# Altium schematic symbol library ATK-SIM800C.SCHLIB: 29 symbols
Pins are listed as number, name and electrical type; pins without a type are passive.

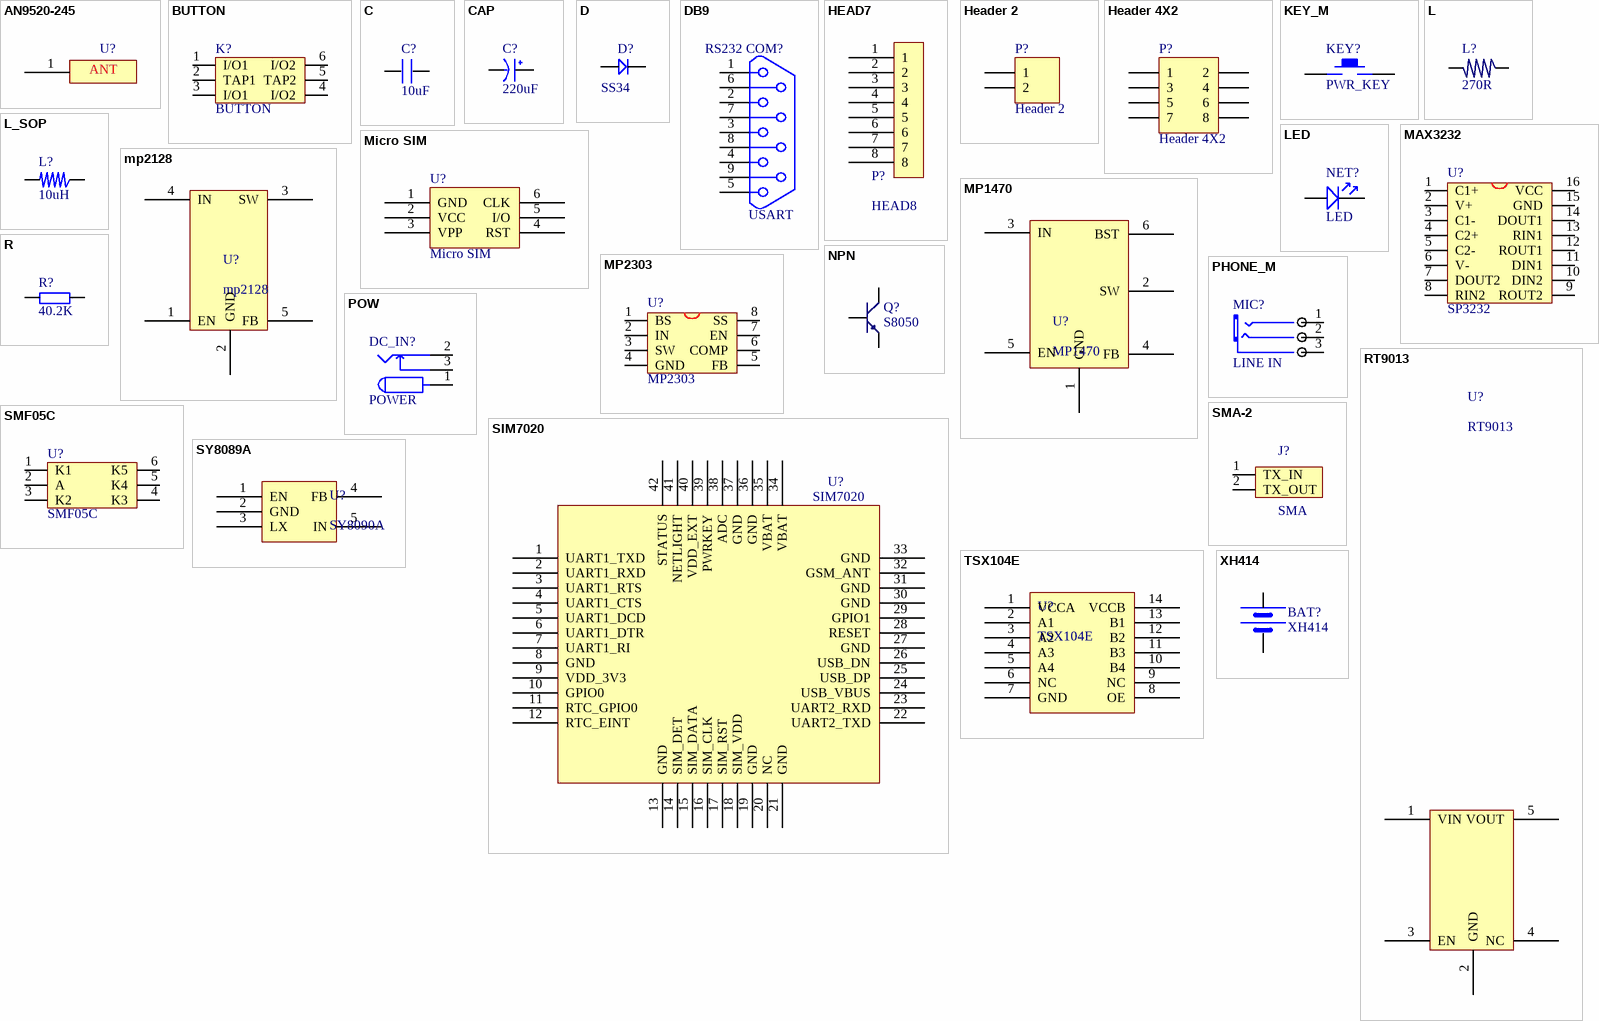
[diagram p0: symbols AN9520-245 to XH414]

## AN9520-245
designator U?, comment ANT  (value not drawn)
陶瓷天线
footprint JOHANSON (陶瓷天线 3.2mm *1.6m)
pins: 1 ANT

## BUTTON
designator K?
footprint BTN8.5*8.5 (8.5MM*8.5MM)
footprint BTN7*7 (7mm*7mm)
pins: 1 I/O1, 2 TAP1, 3 I/O1, 4 I/O2, 5 TAP2, 6 I/O2

## C
designator C?, comment 10uF
footprint 0603P
footprint 0805
footprint CC5.08 (CAP0.1)
footprint CC4.572 (222/332)
footprint 1206
footprint 1210
footprint CC6.096
footprint CC7.62
footprint CVAR (4MM*6.6MM)
footprint C 5.08    7.5mm x4.5mm
pins: 1, 2

## CAP
designator C?, comment 220uF
footprint C1206
footprint CAP2.54 (RB.1/.2)
footprint CAP5.08 (RB.2/.4)
footprint CAP7.62 (25V 2200uF)
footprint CAP10.16 (50V10000uF)
footprint CAP10.9 (50V 2200uF)
footprint CAP3.0 (100V 10uF)
footprint CAP8.0 (25V/4700uF)
footprint CAP8.0_2 (50V/4700uF)
footprint C7040 (7MM*4MM)
footprint CC1010 (SMD;W:10mm;L:10mm;)
footprint CC6.56.5 (SMD;W:6.5mm;L:6.5mm;)
footprint CC88 (SMD;W:8mm;L:8mm;)
footprint CAP2.54M (6mm*8mm)
footprint CAP12.5 (12.5mm*20mm,pin:5.08mm)
footprint CAP5.08_2 (RB 5.08/13)
footprint CC5.35.3
footprint C3528 (1210 3.5MM*2.8MM)
footprint Model Name (Footprint not found)
footprint CAP3528 (1210 3.5MM*2.8MM)
pins: 1 VCC, 2 GND

## D
designator D?, comment SS34
1N4148
footprint SOD-123
footprint DIODE_SOP (4148)
footprint DIODE-L (6A10)
footprint DIODE-M (1N5822)
footprint DIODE_S (1N4007)
footprint DIODE_3*5.3 (ME:SS14/SS24;L:5.3mm;W:3mm;)
footprint DIODE_4*5.6 (ME:RS2J.L:5.6mm;W:4mm)
footprint DIODE_6.2*8.13 (ME:RS2J.L:8.13mm;W:6.2mm)
pins: 1, 2

## DB9
designator RS232 COM?, comment USART
footprint DB9
pins: 1, 2, 3, 4, 5, 6, 7, 8, 9
2 alternate drawings of the same symbol

## HEAD7
designator P?, comment HEAD8
pins: 1, 2, 3, 4, 5, 6, 7, 8

## Header 2
designator P?
Header, 2-Pin; LatestRevisionDate: 17-Jul-2002; LatestRevisionNote: Re-released for DXP Platform.; Publisher: Altium Limited
footprint HDR1X2 (Connector; Header; 2 Position)
signal-integrity model Connector
pins: 1, 2

## Header 4X2
designator P?
Header, 4-Pin, Dual row; LatestRevisionDate: 17-Jul-2002; LatestRevisionNote: Re-released for DXP Platform.; Publisher: Altium Limited
footprint HDR2X4 (Connector; Header; 4x2 Position)
signal-integrity model Connector
pins: 1, 2, 3, 4, 5, 6, 7, 8

## KEY_M
designator KEY?, comment PWR_KEY
footprint KEY_M (KEY_MID)
footprint KEY_2 (KEY?)
footprint KEY_SOP_BG (KEY?)
pins: 1, 2

## L
designator L?, comment 270R
footprint L3A (L)
footprint L4.7
footprint L_USER (SELF_DEF)
footprint L10 (10mH)
footprint SMD7850
footprint 0805
footprint 1206
footprint L_SOPL (L_LARGE)
footprint 0603P
footprint L_CD43 (4mm*4mm)
pins: 1, 2

## L_SOP
designator L?, comment 10uH
footprint L_SOPL (L_LARGE)
footprint L_SOPS (L_4*4)
footprint L10 (10mH)
footprint L_SOP74 (7.4*7.4)
footprint L_4.7 (4mm*4mm)
pins: 1, 2

## LED
designator NET?
footprint SMDLED
footprint LED-DIP (PIN:2.54MM;H:5MM;)
footprint LED-DIP_S
pins: 1, 2

## MAX3232
designator U?, comment SP3232
footprint SOP16M (Small Outline; 16 Leads; Body Width 3.9 mm; Pitch 1.27 mm)
pins: 1 C1+, 2 V+, 3 C1-, 4 C2+, 5 C2-, 6 V-, 7 DOUT2, 8 RIN2, 9 ROUT2, 10 DIN2, 11 DIN1, 12 ROUT1, 13 RIN1, 14 DOUT1, 15 GND, 16 VCC

## Micro SIM
designator U?
footprint Micro SIM (6P 自弹式)
pins: 1 GND, 2 VCC, 3 VPP, 4 RST, 5 I/O, 6 CLK

## MP1470
designator U?
footprint SOP23-6 - duplicate1
footprint SOT-23-6
pins: 1 GND, 2 SW, 3 IN, 4 FB, 5 EN, 6 BST

## mp2128
designator U?
footprint SOT-23-5
pins: 1 EN, 2 GND, 3 SW, 4 IN, 5 FB

## MP2303
designator U?
DC DC Step Down IC
footprint MP2303
pins: 1 BS, 2 IN, 3 SW, 4 GND, 5 FB, 6 COMP, 7 EN, 8 SS

## NPN
designator Q?, comment S8050
8050/BCW846/BCW847
footprint SOT-23R (SOT-23; 3 Leads; Body 3.0 x 2.5 mm, inc. leads (LxW max))
footprint NPN
pins: 1 E, 2 B, 3 C

## PHONE_M
designator MIC?, comment LINE IN
footprint PHONE_ST
pins: 1 CHL, 2 CHR, 3 COM

## POW
designator DC_IN?, comment POWER
footprint POWER (DC_IN)
footprint DC10B
pins: 1, 2, 3

## R
designator R?, comment 40.2K
footprint 0805
footprint 0603P
footprint RL (10o/0.7uH)
footprint R16.0 (RX/1W)
footprint 1206
footprint 1210
footprint R20.0 (RX/2W)
footprint R10.16 (STD)
footprint RLN9 (13.5mm*5.1mm)
footprint 0402
pins: 1, 2

## RT9013
designator U?
footprint SOT-23-5
pins: 1 VIN, 2 GND, 3 EN, 4 NC, 5 VOUT

## SIM7020
designator U?
NBloT
footprint SIM7020
footprint SIM7020
pins: 1 UART1_TXD, 2 UART1_RXD, 3 UART1_RTS, 4 UART1_CTS, 5 UART1_DCD, 6 UART1_DTR, 7 UART1_RI, 8 GND, 9 VDD_3V3, 10 GPIO0, 11 RTC_GPIO0, 12 RTC_EINT, 13 GND, 14 SIM_DET, 15 SIM_DATA, 16 SIM_CLK, 17 SIM_RST, 18 SIM_VDD, 19 GND, 20 NC, 21 GND, 22 UART2_TXD, 23 UART2_RXD, 24 USB_VBUS, 25 USB_DP, 26 USB_DN, 27 GND, 28 RESET, 29 GPIO1, 30 GND, 31 GND, 32 GSM_ANT, 33 GND, 34 VBAT, 35 VBAT, 36 GND, 37 GND, 38 ADC, 39 PWRKEY, 40 VDD_EXT, 41 NETLIGHT, 42 STATUS

## SMA-2
designator J?, comment SMA
SMA-2
footprint SMA-2
pins: 1 TX_IN, 2 TX_OUT

## SMF05C
designator U?
TVS
footprint SMF05C (SOT-363)
pins: 1 K1, 2 A, 3 K2, 4 K3, 5 K4, 6 K5

## SY8089A
designator U?, comment SY8090A
footprint SOT-23(5)
pins: 1 EN, 2 GND, 3 LX, 4 FB, 5 IN

## TSX104E
designator U?
footprint TSX104E
pins: 1 VCCA, 2 A1, 3 A2, 4 A3, 5 A4, 6 NC, 7 GND, 8 OE, 9 NC, 10 B4, 11 B3, 12 B2, 13 B1, 14 VCCB

## XH414
designator BAT?
XH414 IV01E
footprint XH414 (BATTERY)
footprint BAT (BATTERY)
pins: 1 VCC, 2 GND